# Altium schematic symbol library Triacs.SchLib: 3 symbols
Pins are listed as number, name and electrical type; pins without a type are passive.

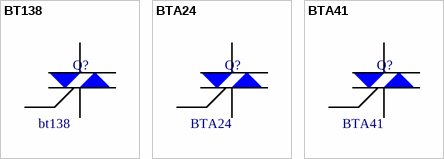
[diagram p0: symbols BT138 to BTA41]

## BT138
designator Q?, comment bt138
VALE: bt138
footprint TO220no3d
pins: 1 A1, 2 A2, 3 G

## BTA24
designator Q?
VALE: BTA24
footprint TO220
pins: 1 A1, 2 A2, 3 G

## BTA41
designator Q?
VALE: BTA41
footprint TOP3S-2
pins: 1 A1, 2 A2, 3 G